# Altium schematic symbol library Passive Components.SchLib: 1 symbol
Pins are listed as number, name and electrical type; pins without a type are passive.

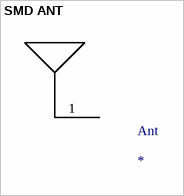
[diagram p0: symbol SMD ANT]

## SMD ANT
designator Ant
footprint SMD_ANT
pins: 1 FEED